# Altium footprint library Loggerhead.PcbLib: 40 footprints (part 2 of 3)
Each footprint in its own frame and in the unit in brackets; x right, y up, seen from the top. Pads: shape width x height; smd on the part's side, far side on the other; paste and mask are expansions set on the pad; w line width, h text height; cw(c..) or ccw(c..) is an arc to the next point about the centre after c.
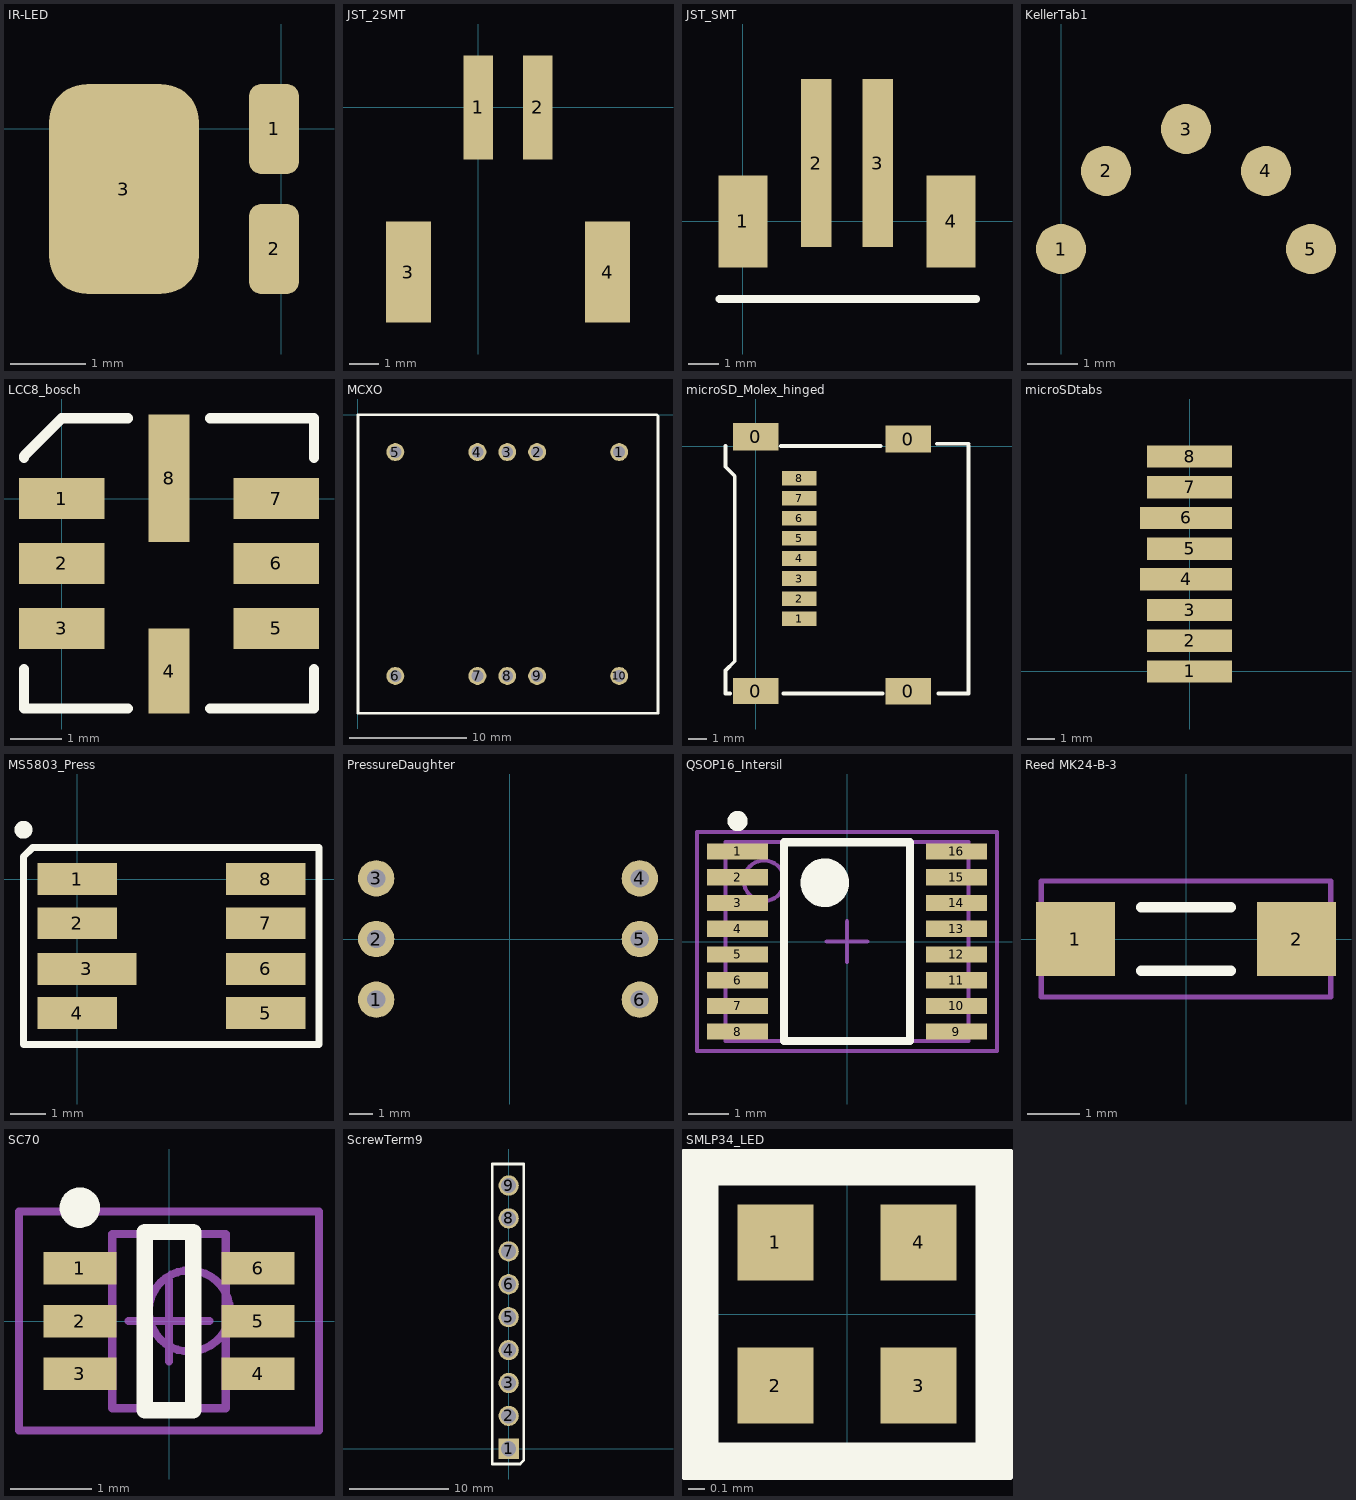
[diagram p1: the footprints below, top view; thin cyan lines are the x and y axes]

## IR-LED [mm]
pads (3):
  rrect50% 0.67x1.2 smd: 1(-0.1,0) 2(-0.1,-1.6)
  rrect50% 2x2.8 smd: 3(-2.1,-0.8)

## JST_2SMT [mm] "JST 2 pin right angle surface mount connector"
height 2
pads (4):
  rect 1x3.5 smd: 1(0,0) 2(2,0)
  rect 1.5x3.4 smd: 3(-2.35,-5.55) 4(4.35,-5.55)

## JST_SMT [mm] "JST surface mount power connector"
height 6.6
pads (4):
  rect 1.6x3 all layers, no hole: 1(0,0) 4(6.8,0)
  rect 1x5.5 all layers, no hole: 2(2.4,1.905) 3(4.4,1.905)
Top Overlay:
  lines w0.254: -0.762,-2.54 7.62,-2.54

## KellerTab1 [mm] "Pressure sensor"
height 1
pads (5):
  round 1 smd: 1(0,8) 2(0.9,9.56) 3(2.5,10.4) 4(4.1,9.56) 5(5,8)

## LCC8_bosch [mm]
pads (8):
  rect 1.67x0.8 smd: 1(0,0) 2(0,-1.27) 3(0,-2.54) 5(4.2,-2.54) 6(4.2,-1.27) 7(4.2,0)
  rect 0.8x1.67 smd: 4(2.1,-3.375)
  rect 0.8x2.5 smd: 8(2.1,0.4)
Top Overlay:
  lines w0.2: -0.735,-3.34 -0.735,-4.11 1.3,-4.11 ; -0.735,0.8 -0.735,0.835 0,1.57 1.3,1.57 ; 2.9,-4.11 4.935,-4.11 4.935,-3.34 ; 2.9,1.57 4.935,1.57 4.935,0.8

## MCXO [mil]
height 503.94
pads (10):
  round 60 hole 40: 1(875,-125) 2(600,-125) 3(500,-125) 4(400,-125) 5(125,-125) 6(125,-875) 7(400,-875) 8(500,-875) 9(600,-875) 10(875,-875)
Top Overlay:
  lines w10: 0,-1000 0,0 1000,0 ; 5,-1000 1005,-1000 1005,-5

## microSD_Molex_hinged [mm]
pads (12):
  rect 2.5x1.45 smd: 0(0,-13.45) 0(8.382,-13.462)
  rect 2.5x1.5 smd: 0(0,0.508) 0(8.382,0.381)
  rect 1.9x0.8 smd: 1(2.4,-9.475) 2(2.4,-8.375) 3(2.4,-7.275) 4(2.4,-6.175) 5(2.4,-5.075) 6(2.4,-3.975) 7(2.4,-2.875) 8(2.4,-1.775)
Top Overlay:
  lines w0.2: -1.651,0 -1.651,-1.143 -1.143,-1.651 -1.143,-11.811 -1.651,-12.319 -1.651,-13.589 -1.397,-13.589 ; 1.397,0 6.858,0 ; 1.524,-13.589 6.985,-13.589 ; 9.941,0.127 11.684,0.127 ; 10.033,-13.589 11.684,-13.589 11.684,0

## microSDtabs [mm]
pads (8):
  rect 3.048x0.8 smd: 1(0,0) 2(0,1.1) 3(0,2.2) 5(0,4.4) 7(0,6.6) 8(0,7.7)
  rect 3.302x0.8 smd: 4(-0.127,3.3) 6(-0.127,5.5)

## MS5803_Press [mm]
pads (8):
  rect 2.25x0.9 smd: 1(0,0) 2(0,-1.25) 4(0,-3.8) 5(5.35,-3.8) 6(5.35,-2.55) 7(5.35,-1.25) 8(5.35,0)
  rect 2.8x0.9 smd: 3(0.275,-2.55)
Top Overlay:
  circle w0.254: c-1.524,1.397 r0.127
  lines w0.2: -1.524,-4.699 -1.524,0.635 -1.27,0.889 6.858,0.889 6.858,-4.699 -1.524,-4.699

## PCBComponent_1 [mm]

## PressureDaughter [mil]
pads (6):
  round 60 hole 30: 1(-220,-100) 2(-220,0) 3(-220,100) 4(215,100) 5(215,0) 6(215,-100)

## QSOP16_Intersil [mm]
height 1.727
pads (16):
  rect 1.5x0.4 smd: 1(-2.7,2.222) 2(-2.7,1.587) 3(-2.7,0.953) 4(-2.7,0.318) 5(-2.7,-0.318) 6(-2.7,-0.953) 7(-2.7,-1.587) 8(-2.7,-2.222) 9(2.7,-2.222) 10(2.7,-1.587) 11(2.7,-0.953) 12(2.7,-0.318) 13(2.7,0.318) 14(2.7,0.953) 15(2.7,1.587) 16(2.7,2.222)
Top Overlay:
  circle w0.25: c-2.7,2.973 r0.125
  circle w0.6: c-0.55,1.45 r0.3
  lines w0.2: -1.55,-2.45 -1.55,2.45 1.55,2.45 1.55,-2.45 -1.55,-2.45
Mechanical 13:
  circle w0.1: c-2.045,1.5 r0.5
  lines w0.1: -2.995,-2.45 -2.995,2.45 2.995,2.45 2.995,-2.45 -2.995,-2.45
Mechanical 15:
  lines w0.1: -0.5,0 0.5,0 ; 0,-0.5 0,0.5 ; -3.7,-2.7 -3.7,2.7 3.7,2.7 3.7,-2.7 -3.7,-2.7
3D body: height 1.73, standoff 0.15, extent -2.995,-2.45 2.995,2.45

## Reed MK24-B-3 [mm] "Meder Reed Switch Surface Mount"
height 1.8
pads (2):
  rect 1.5x1.4 smd: 1(-2.1,0) 2(2.1,0)
Top Overlay:
  lines w0.2: -0.85,-0.6 0.85,-0.6 ; -0.85,0.6 0.85,0.6
Mechanical 13:
  lines w0.1: -2.75,-1.1 2.75,-1.1 2.75,1.1 -2.75,1.1 -2.75,-1.1
3D body: height 1.8, standoff 0, extent -2.75,-1.1 2.75,1.1

## SC70 [mm] "TSOP, 6-Leads, Body 2.2x1.4mm (max), Pitch 0.65mm, IPC Medium Density"
height 1.1
pads (6):
  rect 0.9x0.4 smd: 1(-1.1,0.65) 2(-1.1,0) 3(-1.1,-0.65) 4(1.1,-0.65) 5(1.1,0) 6(1.1,0.65)
Top Overlay:
  circle w0.25: c-1.1,1.4 r0.125
  lines w0.2: -0.3,-1.1 -0.3,1.1 0.3,1.1 0.3,-1.1 -0.3,-1.1
Mechanical 13:
  circle w0.1: c0.25,0.125 r0.5
  lines w0.1: -0.7,-1.075 -0.7,1.075 0.7,1.075 0.7,-1.075 -0.7,-1.075
Mechanical 15:
  lines w0.1: -0.5,0 0.5,0 ; 0,-0.5 0,0.5 ; -1.85,-1.35 -1.85,1.35 1.85,1.35 1.85,-1.35 -1.85,-1.35
3D body: height 1.1, standoff 0.1, extent -0.7,-1.075 0.7,1.075

## ScrewTerm9 [mil]
pads (9):
  rect 80x80 hole 60: 1(0,0.04)
  round 80 hole 60: 2(0,130) 3(0,260) 4(0,390) 5(0,520) 6(0,650) 7(0,780) 8(0,910) 9(0,1040)
Top Overlay:
  lines w10: -65,-60 -65,1125 60,1125 60,-45 45,-60 -65,-60

## SMLP34_LED [mm] "RGB LED"
height 0.2
pads (4):
  rect 0.45x0.45 smd: 1(-0.425,0.425) 2(-0.425,-0.425) 3(0.425,-0.425) 4(0.425,0.425)
Top Overlay:
  lines w0.254: -0.889,-0.889 -0.889,-0.762 -0.889,0.889 0.889,0.889 0.889,-0.889 -0.889,-0.889